# Altium footprint library Header_127.PcbLib: 60 footprints (part 5 of 6)
Each footprint in its own frame and in the unit in brackets; x right, y up, seen from the top. Pads: shape width x height; smd on the part's side, far side on the other; paste and mask are expansions set on the pad; w line width, h text height; cw(c..) or ccw(c..) is an arc to the next point about the centre after c.
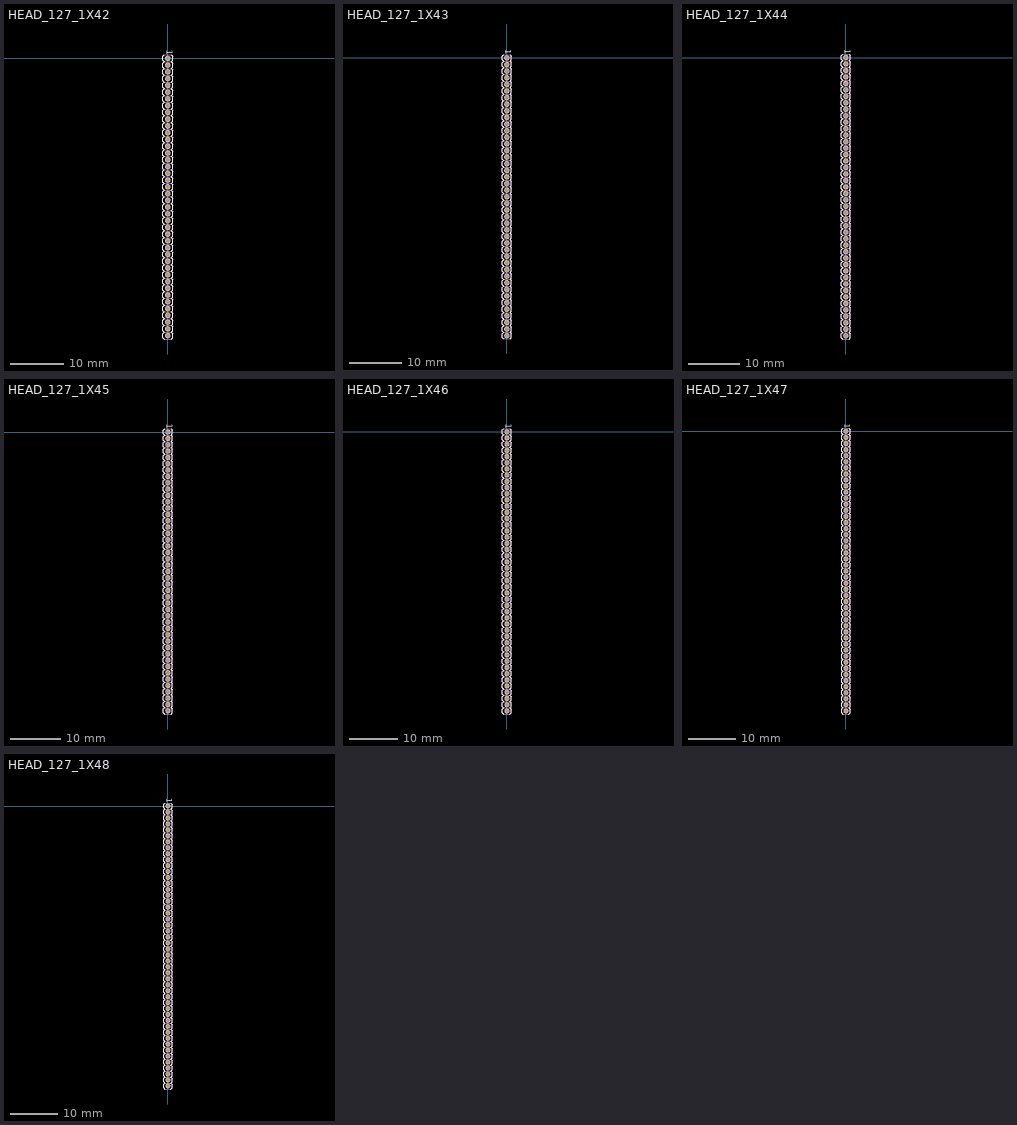
[diagram p4: the footprints below, top view; thin cyan lines are the x and y axes]

## HEAD_127_1X42 [mm] "Header 1.27mm 1x42"
pads (42):
  round 1.05 hole 0.65: 1(0,0) 2(0,-1.27) 3(0,-2.54) 4(0,-3.81) 5(0,-5.08) 6(0,-6.35) 7(0,-7.62) 8(0,-8.89) 9(0,-10.16) 10(0,-11.43) 11(0,-12.7) 12(0,-13.97) 13(0,-15.24) 14(0,-16.51) 15(0,-17.78) 16(0,-19.05) 17(0,-20.32) 18(0,-21.59) 19(0,-22.86) 20(0,-24.13) 21(0,-25.4) 22(0,-26.67) 23(0,-27.94) 24(0,-29.21) 25(0,-30.48) 26(0,-31.75) 27(0,-33.02) 28(0,-34.29) 29(0,-35.56) 30(0,-36.83) 31(0,-38.1) 32(0,-39.37) 33(0,-40.64) 34(0,-41.91) 35(0,-43.18) 36(0,-44.45) 37(0,-45.72) 38(0,-46.99) 39(0,-48.26) 40(0,-49.53) 41(0,-50.8) 42(0,-52.07)
Top Overlay:
  drawing of 252 lines, arcs and shapes, not listed
  text "1" at -0.642,1.636 h2
Bottom Overlay:
  text "1" at -0.642,0.864 h2
Top Assembly:
  drawing of 302 lines, arcs and shapes, not listed
3D body: height 2, standoff 0, extent -0.9,-52.705 0.9,-51.435
3D body: height 10, standoff -3, extent -0.2,-52.27 0.2,-51.87
3D body: height 2, standoff 0, extent -0.9,-51.435 0.9,-50.165
3D body: height 10, standoff -3, extent -0.2,-51 0.2,-50.6
3D body: height 2, standoff 0, extent -0.9,-50.165 0.9,-48.895
3D body: height 10, standoff -3, extent -0.2,-49.73 0.2,-49.33
3D body: height 2, standoff 0, extent -0.9,-48.895 0.9,-47.625
3D body: height 10, standoff -3, extent -0.2,-48.46 0.2,-48.06
3D body: height 2, standoff 0, extent -0.9,-47.625 0.9,-46.355
3D body: height 10, standoff -3, extent -0.2,-47.19 0.2,-46.79
3D body: height 2, standoff 0, extent -0.9,-46.355 0.9,-45.085
3D body: height 10, standoff -3, extent -0.2,-45.92 0.2,-45.52
3D body: height 2, standoff 0, extent -0.9,-45.085 0.9,-43.815
3D body: height 10, standoff -3, extent -0.2,-44.65 0.2,-44.25
3D body: height 2, standoff 0, extent -0.9,-43.815 0.9,-42.545
3D body: height 10, standoff -3, extent -0.2,-43.38 0.2,-42.98
3D body: height 2, standoff 0, extent -0.9,-42.545 0.9,-41.275
3D body: height 10, standoff -3, extent -0.2,-42.11 0.2,-41.71
3D body: height 2, standoff 0, extent -0.9,-41.275 0.9,-40.005
3D body: height 10, standoff -3, extent -0.2,-40.84 0.2,-40.44
3D body: height 2, standoff 0, extent -0.9,-40.005 0.9,-38.735
3D body: height 10, standoff -3, extent -0.2,-39.57 0.2,-39.17
3D body: height 2, standoff 0, extent -0.9,-38.735 0.9,-37.465
3D body: height 10, standoff -3, extent -0.2,-38.3 0.2,-37.9
3D body: height 2, standoff 0, extent -0.9,-37.465 0.9,-36.195
3D body: height 10, standoff -3, extent -0.2,-37.03 0.2,-36.63
3D body: height 2, standoff 0, extent -0.9,-36.195 0.9,-34.925
3D body: height 10, standoff -3, extent -0.2,-35.76 0.2,-35.36
3D body: height 2, standoff 0, extent -0.9,-34.925 0.9,-33.655
3D body: height 10, standoff -3, extent -0.2,-34.49 0.2,-34.09
3D body: height 2, standoff 0, extent -0.9,-33.655 0.9,-32.385
3D body: height 10, standoff -3, extent -0.2,-33.22 0.2,-32.82
3D body: height 2, standoff 0, extent -0.9,-32.385 0.9,-31.115
3D body: height 10, standoff -3, extent -0.2,-31.95 0.2,-31.55
3D body: height 2, standoff 0, extent -0.9,-31.115 0.9,-29.845
3D body: height 10, standoff -3, extent -0.2,-30.68 0.2,-30.28
3D body: height 2, standoff 0, extent -0.9,-29.845 0.9,-28.575
3D body: height 10, standoff -3, extent -0.2,-29.41 0.2,-29.01
3D body: height 2, standoff 0, extent -0.9,-28.575 0.9,-27.305
3D body: height 10, standoff -3, extent -0.2,-28.14 0.2,-27.74
3D body: height 2, standoff 0, extent -0.9,-27.305 0.9,-26.035
3D body: height 10, standoff -3, extent -0.2,-26.87 0.2,-26.47
3D body: height 2, standoff 0, extent -0.9,-26.035 0.9,-24.765
3D body: height 10, standoff -3, extent -0.2,-25.6 0.2,-25.2
3D body: height 2, standoff 0, extent -0.9,-24.765 0.9,-23.495
3D body: height 10, standoff -3, extent -0.2,-24.33 0.2,-23.93
3D body: height 2, standoff 0, extent -0.9,-23.495 0.9,-22.225
3D body: height 10, standoff -3, extent -0.2,-23.06 0.2,-22.66
3D body: height 2, standoff 0, extent -0.9,-22.225 0.9,-20.955
3D body: height 10, standoff -3, extent -0.2,-21.79 0.2,-21.39
3D body: height 2, standoff 0, extent -0.9,-20.955 0.9,-19.685
3D body: height 10, standoff -3, extent -0.2,-20.52 0.2,-20.12
3D body: height 2, standoff 0, extent -0.9,-19.685 0.9,-18.415
3D body: height 10, standoff -3, extent -0.2,-19.25 0.2,-18.85
3D body: height 10, standoff -3, extent -0.2,-0.2 0.2,0.2
3D body: height 2, standoff 0, extent -0.9,-0.635 0.9,0.635
3D body: height 10, standoff -3, extent -0.2,-1.47 0.2,-1.07
3D body: height 2, standoff 0, extent -0.9,-1.905 0.9,-0.635
3D body: height 10, standoff -3, extent -0.2,-2.74 0.2,-2.34
3D body: height 2, standoff 0, extent -0.9,-3.175 0.9,-1.905
3D body: height 10, standoff -3, extent -0.2,-4.01 0.2,-3.61
3D body: height 2, standoff 0, extent -0.9,-4.445 0.9,-3.175
3D body: height 10, standoff -3, extent -0.2,-5.28 0.2,-4.88
3D body: height 2, standoff 0, extent -0.9,-5.715 0.9,-4.445
3D body: height 10, standoff -3, extent -0.2,-6.55 0.2,-6.15
3D body: height 2, standoff 0, extent -0.9,-6.985 0.9,-5.715
3D body: height 10, standoff -3, extent -0.2,-7.82 0.2,-7.42
3D body: height 2, standoff 0, extent -0.9,-8.255 0.9,-6.985
3D body: height 2, standoff 0, extent -0.9,-9.525 0.9,-8.255
3D body: height 10, standoff -3, extent -0.2,-9.09 0.2,-8.69
3D body: height 2, standoff 0, extent -0.9,-10.795 0.9,-9.525
3D body: height 10, standoff -3, extent -0.2,-10.36 0.2,-9.96
3D body: height 2, standoff 0, extent -0.9,-12.065 0.9,-10.795
3D body: height 10, standoff -3, extent -0.2,-11.63 0.2,-11.23
3D body: height 2, standoff 0, extent -0.9,-13.335 0.9,-12.065
3D body: height 10, standoff -3, extent -0.2,-12.9 0.2,-12.5
3D body: height 2, standoff 0, extent -0.9,-14.605 0.9,-13.335
3D body: height 10, standoff -3, extent -0.2,-14.17 0.2,-13.77
3D body: height 2, standoff 0, extent -0.9,-15.875 0.9,-14.605
3D body: height 10, standoff -3, extent -0.2,-15.44 0.2,-15.04
3D body: height 2, standoff 0, extent -0.9,-17.145 0.9,-15.875
3D body: height 10, standoff -3, extent -0.2,-16.71 0.2,-16.31
3D body: height 2, standoff 0, extent -0.9,-18.415 0.9,-17.145
3D body: height 10, standoff -3, extent -0.2,-17.98 0.2,-17.58

## HEAD_127_1X43 [mm] "Header 1.27mm 1x43"
pads (43):
  round 1.05 hole 0.65: 1(0,0) 2(0,-1.27) 3(0,-2.54) 4(0,-3.81) 5(0,-5.08) 6(0,-6.35) 7(0,-7.62) 8(0,-8.89) 9(0,-10.16) 10(0,-11.43) 11(0,-12.7) 12(0,-13.97) 13(0,-15.24) 14(0,-16.51) 15(0,-17.78) 16(0,-19.05) 17(0,-20.32) 18(0,-21.59) 19(0,-22.86) 20(0,-24.13) 21(0,-25.4) 22(0,-26.67) 23(0,-27.94) 24(0,-29.21) 25(0,-30.48) 26(0,-31.75) 27(0,-33.02) 28(0,-34.29) 29(0,-35.56) 30(0,-36.83) 31(0,-38.1) 32(0,-39.37) 33(0,-40.64) 34(0,-41.91) 35(0,-43.18) 36(0,-44.45) 37(0,-45.72) 38(0,-46.99) 39(0,-48.26) 40(0,-49.53) 41(0,-50.8) 42(0,-52.07) 43(0,-53.34)
Top Overlay:
  drawing of 258 lines, arcs and shapes, not listed
  text "1" at -0.642,1.636 h2
Bottom Overlay:
  text "1" at -0.642,0.864 h2
Top Assembly:
  drawing of 309 lines, arcs and shapes, not listed
3D body: height 2, standoff 0, extent -0.9,-53.975 0.9,-52.705
3D body: height 10, standoff -3, extent -0.2,-53.54 0.2,-53.14
3D body: height 2, standoff 0, extent -0.9,-52.705 0.9,-51.435
3D body: height 10, standoff -3, extent -0.2,-52.27 0.2,-51.87
3D body: height 2, standoff 0, extent -0.9,-51.435 0.9,-50.165
3D body: height 10, standoff -3, extent -0.2,-51 0.2,-50.6
3D body: height 2, standoff 0, extent -0.9,-50.165 0.9,-48.895
3D body: height 10, standoff -3, extent -0.2,-49.73 0.2,-49.33
3D body: height 2, standoff 0, extent -0.9,-48.895 0.9,-47.625
3D body: height 10, standoff -3, extent -0.2,-48.46 0.2,-48.06
3D body: height 2, standoff 0, extent -0.9,-47.625 0.9,-46.355
3D body: height 10, standoff -3, extent -0.2,-47.19 0.2,-46.79
3D body: height 2, standoff 0, extent -0.9,-46.355 0.9,-45.085
3D body: height 10, standoff -3, extent -0.2,-45.92 0.2,-45.52
3D body: height 2, standoff 0, extent -0.9,-45.085 0.9,-43.815
3D body: height 10, standoff -3, extent -0.2,-44.65 0.2,-44.25
3D body: height 2, standoff 0, extent -0.9,-43.815 0.9,-42.545
3D body: height 10, standoff -3, extent -0.2,-43.38 0.2,-42.98
3D body: height 2, standoff 0, extent -0.9,-42.545 0.9,-41.275
3D body: height 10, standoff -3, extent -0.2,-42.11 0.2,-41.71
3D body: height 2, standoff 0, extent -0.9,-41.275 0.9,-40.005
3D body: height 10, standoff -3, extent -0.2,-40.84 0.2,-40.44
3D body: height 2, standoff 0, extent -0.9,-40.005 0.9,-38.735
3D body: height 10, standoff -3, extent -0.2,-39.57 0.2,-39.17
3D body: height 2, standoff 0, extent -0.9,-38.735 0.9,-37.465
3D body: height 10, standoff -3, extent -0.2,-38.3 0.2,-37.9
3D body: height 2, standoff 0, extent -0.9,-37.465 0.9,-36.195
3D body: height 10, standoff -3, extent -0.2,-37.03 0.2,-36.63
3D body: height 2, standoff 0, extent -0.9,-36.195 0.9,-34.925
3D body: height 10, standoff -3, extent -0.2,-35.76 0.2,-35.36
3D body: height 2, standoff 0, extent -0.9,-34.925 0.9,-33.655
3D body: height 10, standoff -3, extent -0.2,-34.49 0.2,-34.09
3D body: height 2, standoff 0, extent -0.9,-33.655 0.9,-32.385
3D body: height 10, standoff -3, extent -0.2,-33.22 0.2,-32.82
3D body: height 2, standoff 0, extent -0.9,-32.385 0.9,-31.115
3D body: height 10, standoff -3, extent -0.2,-31.95 0.2,-31.55
3D body: height 2, standoff 0, extent -0.9,-31.115 0.9,-29.845
3D body: height 10, standoff -3, extent -0.2,-30.68 0.2,-30.28
3D body: height 2, standoff 0, extent -0.9,-29.845 0.9,-28.575
3D body: height 10, standoff -3, extent -0.2,-29.41 0.2,-29.01
3D body: height 2, standoff 0, extent -0.9,-28.575 0.9,-27.305
3D body: height 10, standoff -3, extent -0.2,-28.14 0.2,-27.74
3D body: height 2, standoff 0, extent -0.9,-27.305 0.9,-26.035
3D body: height 10, standoff -3, extent -0.2,-26.87 0.2,-26.47
3D body: height 2, standoff 0, extent -0.9,-26.035 0.9,-24.765
3D body: height 10, standoff -3, extent -0.2,-25.6 0.2,-25.2
3D body: height 2, standoff 0, extent -0.9,-24.765 0.9,-23.495
3D body: height 10, standoff -3, extent -0.2,-24.33 0.2,-23.93
3D body: height 2, standoff 0, extent -0.9,-23.495 0.9,-22.225
3D body: height 10, standoff -3, extent -0.2,-23.06 0.2,-22.66
3D body: height 2, standoff 0, extent -0.9,-22.225 0.9,-20.955
3D body: height 10, standoff -3, extent -0.2,-21.79 0.2,-21.39
3D body: height 2, standoff 0, extent -0.9,-20.955 0.9,-19.685
3D body: height 10, standoff -3, extent -0.2,-20.52 0.2,-20.12
3D body: height 2, standoff 0, extent -0.9,-19.685 0.9,-18.415
3D body: height 10, standoff -3, extent -0.2,-19.25 0.2,-18.85
3D body: height 10, standoff -3, extent -0.2,-0.2 0.2,0.2
3D body: height 2, standoff 0, extent -0.9,-0.635 0.9,0.635
3D body: height 10, standoff -3, extent -0.2,-1.47 0.2,-1.07
3D body: height 2, standoff 0, extent -0.9,-1.905 0.9,-0.635
3D body: height 10, standoff -3, extent -0.2,-2.74 0.2,-2.34
3D body: height 2, standoff 0, extent -0.9,-3.175 0.9,-1.905
3D body: height 10, standoff -3, extent -0.2,-4.01 0.2,-3.61
3D body: height 2, standoff 0, extent -0.9,-4.445 0.9,-3.175
3D body: height 10, standoff -3, extent -0.2,-5.28 0.2,-4.88
3D body: height 2, standoff 0, extent -0.9,-5.715 0.9,-4.445
3D body: height 10, standoff -3, extent -0.2,-6.55 0.2,-6.15
3D body: height 2, standoff 0, extent -0.9,-6.985 0.9,-5.715
3D body: height 10, standoff -3, extent -0.2,-7.82 0.2,-7.42
3D body: height 2, standoff 0, extent -0.9,-8.255 0.9,-6.985
3D body: height 2, standoff 0, extent -0.9,-9.525 0.9,-8.255
3D body: height 10, standoff -3, extent -0.2,-9.09 0.2,-8.69
3D body: height 2, standoff 0, extent -0.9,-10.795 0.9,-9.525
3D body: height 10, standoff -3, extent -0.2,-10.36 0.2,-9.96
3D body: height 2, standoff 0, extent -0.9,-12.065 0.9,-10.795
3D body: height 10, standoff -3, extent -0.2,-11.63 0.2,-11.23
3D body: height 2, standoff 0, extent -0.9,-13.335 0.9,-12.065
3D body: height 10, standoff -3, extent -0.2,-12.9 0.2,-12.5
3D body: height 2, standoff 0, extent -0.9,-14.605 0.9,-13.335
3D body: height 10, standoff -3, extent -0.2,-14.17 0.2,-13.77
3D body: height 2, standoff 0, extent -0.9,-15.875 0.9,-14.605
3D body: height 10, standoff -3, extent -0.2,-15.44 0.2,-15.04
3D body: height 2, standoff 0, extent -0.9,-17.145 0.9,-15.875
3D body: height 10, standoff -3, extent -0.2,-16.71 0.2,-16.31
3D body: height 2, standoff 0, extent -0.9,-18.415 0.9,-17.145
3D body: height 10, standoff -3, extent -0.2,-17.98 0.2,-17.58

## HEAD_127_1X44 [mm] "Header 1.27mm 1x44"
pads (44):
  round 1.05 hole 0.65: 1(0,0) 2(0,-1.27) 3(0,-2.54) 4(0,-3.81) 5(0,-5.08) 6(0,-6.35) 7(0,-7.62) 8(0,-8.89) 9(0,-10.16) 10(0,-11.43) 11(0,-12.7) 12(0,-13.97) 13(0,-15.24) 14(0,-16.51) 15(0,-17.78) 16(0,-19.05) 17(0,-20.32) 18(0,-21.59) 19(0,-22.86) 20(0,-24.13) 21(0,-25.4) 22(0,-26.67) 23(0,-27.94) 24(0,-29.21) 25(0,-30.48) 26(0,-31.75) 27(0,-33.02) 28(0,-34.29) 29(0,-35.56) 30(0,-36.83) 31(0,-38.1) 32(0,-39.37) 33(0,-40.64) 34(0,-41.91) 35(0,-43.18) 36(0,-44.45) 37(0,-45.72) 38(0,-46.99) 39(0,-48.26) 40(0,-49.53) 41(0,-50.8) 42(0,-52.07) 43(0,-53.34) 44(0,-54.61)
Top Overlay:
  drawing of 264 lines, arcs and shapes, not listed
  text "1" at -0.642,1.636 h2
Bottom Overlay:
  text "1" at -0.642,0.864 h2
Top Assembly:
  drawing of 316 lines, arcs and shapes, not listed
3D body: height 2, standoff 0, extent -0.9,-55.245 0.9,-53.975
3D body: height 10, standoff -3, extent -0.2,-54.81 0.2,-54.41
3D body: height 2, standoff 0, extent -0.9,-53.975 0.9,-52.705
3D body: height 10, standoff -3, extent -0.2,-53.54 0.2,-53.14
3D body: height 2, standoff 0, extent -0.9,-52.705 0.9,-51.435
3D body: height 10, standoff -3, extent -0.2,-52.27 0.2,-51.87
3D body: height 2, standoff 0, extent -0.9,-51.435 0.9,-50.165
3D body: height 10, standoff -3, extent -0.2,-51 0.2,-50.6
3D body: height 2, standoff 0, extent -0.9,-50.165 0.9,-48.895
3D body: height 10, standoff -3, extent -0.2,-49.73 0.2,-49.33
3D body: height 2, standoff 0, extent -0.9,-48.895 0.9,-47.625
3D body: height 10, standoff -3, extent -0.2,-48.46 0.2,-48.06
3D body: height 2, standoff 0, extent -0.9,-47.625 0.9,-46.355
3D body: height 10, standoff -3, extent -0.2,-47.19 0.2,-46.79
3D body: height 2, standoff 0, extent -0.9,-46.355 0.9,-45.085
3D body: height 10, standoff -3, extent -0.2,-45.92 0.2,-45.52
3D body: height 2, standoff 0, extent -0.9,-45.085 0.9,-43.815
3D body: height 10, standoff -3, extent -0.2,-44.65 0.2,-44.25
3D body: height 2, standoff 0, extent -0.9,-43.815 0.9,-42.545
3D body: height 10, standoff -3, extent -0.2,-43.38 0.2,-42.98
3D body: height 2, standoff 0, extent -0.9,-42.545 0.9,-41.275
3D body: height 10, standoff -3, extent -0.2,-42.11 0.2,-41.71
3D body: height 2, standoff 0, extent -0.9,-41.275 0.9,-40.005
3D body: height 10, standoff -3, extent -0.2,-40.84 0.2,-40.44
3D body: height 2, standoff 0, extent -0.9,-40.005 0.9,-38.735
3D body: height 10, standoff -3, extent -0.2,-39.57 0.2,-39.17
3D body: height 2, standoff 0, extent -0.9,-38.735 0.9,-37.465
3D body: height 10, standoff -3, extent -0.2,-38.3 0.2,-37.9
3D body: height 2, standoff 0, extent -0.9,-37.465 0.9,-36.195
3D body: height 10, standoff -3, extent -0.2,-37.03 0.2,-36.63
3D body: height 2, standoff 0, extent -0.9,-36.195 0.9,-34.925
3D body: height 10, standoff -3, extent -0.2,-35.76 0.2,-35.36
3D body: height 2, standoff 0, extent -0.9,-34.925 0.9,-33.655
3D body: height 10, standoff -3, extent -0.2,-34.49 0.2,-34.09
3D body: height 2, standoff 0, extent -0.9,-33.655 0.9,-32.385
3D body: height 10, standoff -3, extent -0.2,-33.22 0.2,-32.82
3D body: height 2, standoff 0, extent -0.9,-32.385 0.9,-31.115
3D body: height 10, standoff -3, extent -0.2,-31.95 0.2,-31.55
3D body: height 2, standoff 0, extent -0.9,-31.115 0.9,-29.845
3D body: height 10, standoff -3, extent -0.2,-30.68 0.2,-30.28
3D body: height 2, standoff 0, extent -0.9,-29.845 0.9,-28.575
3D body: height 10, standoff -3, extent -0.2,-29.41 0.2,-29.01
3D body: height 2, standoff 0, extent -0.9,-28.575 0.9,-27.305
3D body: height 10, standoff -3, extent -0.2,-28.14 0.2,-27.74
3D body: height 2, standoff 0, extent -0.9,-27.305 0.9,-26.035
3D body: height 10, standoff -3, extent -0.2,-26.87 0.2,-26.47
3D body: height 2, standoff 0, extent -0.9,-26.035 0.9,-24.765
3D body: height 10, standoff -3, extent -0.2,-25.6 0.2,-25.2
3D body: height 2, standoff 0, extent -0.9,-24.765 0.9,-23.495
3D body: height 10, standoff -3, extent -0.2,-24.33 0.2,-23.93
3D body: height 2, standoff 0, extent -0.9,-23.495 0.9,-22.225
3D body: height 10, standoff -3, extent -0.2,-23.06 0.2,-22.66
3D body: height 2, standoff 0, extent -0.9,-22.225 0.9,-20.955
3D body: height 10, standoff -3, extent -0.2,-21.79 0.2,-21.39
3D body: height 2, standoff 0, extent -0.9,-20.955 0.9,-19.685
3D body: height 10, standoff -3, extent -0.2,-20.52 0.2,-20.12
3D body: height 2, standoff 0, extent -0.9,-19.685 0.9,-18.415
3D body: height 10, standoff -3, extent -0.2,-19.25 0.2,-18.85
3D body: height 10, standoff -3, extent -0.2,-0.2 0.2,0.2
3D body: height 2, standoff 0, extent -0.9,-0.635 0.9,0.635
3D body: height 10, standoff -3, extent -0.2,-1.47 0.2,-1.07
3D body: height 2, standoff 0, extent -0.9,-1.905 0.9,-0.635
3D body: height 10, standoff -3, extent -0.2,-2.74 0.2,-2.34
3D body: height 2, standoff 0, extent -0.9,-3.175 0.9,-1.905
3D body: height 10, standoff -3, extent -0.2,-4.01 0.2,-3.61
3D body: height 2, standoff 0, extent -0.9,-4.445 0.9,-3.175
3D body: height 10, standoff -3, extent -0.2,-5.28 0.2,-4.88
3D body: height 2, standoff 0, extent -0.9,-5.715 0.9,-4.445
3D body: height 10, standoff -3, extent -0.2,-6.55 0.2,-6.15
3D body: height 2, standoff 0, extent -0.9,-6.985 0.9,-5.715
3D body: height 10, standoff -3, extent -0.2,-7.82 0.2,-7.42
3D body: height 2, standoff 0, extent -0.9,-8.255 0.9,-6.985
3D body: height 2, standoff 0, extent -0.9,-9.525 0.9,-8.255
3D body: height 10, standoff -3, extent -0.2,-9.09 0.2,-8.69
3D body: height 2, standoff 0, extent -0.9,-10.795 0.9,-9.525
3D body: height 10, standoff -3, extent -0.2,-10.36 0.2,-9.96
3D body: height 2, standoff 0, extent -0.9,-12.065 0.9,-10.795
3D body: height 10, standoff -3, extent -0.2,-11.63 0.2,-11.23
3D body: height 2, standoff 0, extent -0.9,-13.335 0.9,-12.065
3D body: height 10, standoff -3, extent -0.2,-12.9 0.2,-12.5
3D body: height 2, standoff 0, extent -0.9,-14.605 0.9,-13.335
3D body: height 10, standoff -3, extent -0.2,-14.17 0.2,-13.77
3D body: height 2, standoff 0, extent -0.9,-15.875 0.9,-14.605
3D body: height 10, standoff -3, extent -0.2,-15.44 0.2,-15.04
3D body: height 2, standoff 0, extent -0.9,-17.145 0.9,-15.875
3D body: height 10, standoff -3, extent -0.2,-16.71 0.2,-16.31
3D body: height 2, standoff 0, extent -0.9,-18.415 0.9,-17.145
3D body: height 10, standoff -3, extent -0.2,-17.98 0.2,-17.58

## HEAD_127_1X45 [mm] "Header 1.27mm 1x45"
pads (45):
  round 1.05 hole 0.65: 1(0,0) 2(0,-1.27) 3(0,-2.54) 4(0,-3.81) 5(0,-5.08) 6(0,-6.35) 7(0,-7.62) 8(0,-8.89) 9(0,-10.16) 10(0,-11.43) 11(0,-12.7) 12(0,-13.97) 13(0,-15.24) 14(0,-16.51) 15(0,-17.78) 16(0,-19.05) 17(0,-20.32) 18(0,-21.59) 19(0,-22.86) 20(0,-24.13) 21(0,-25.4) 22(0,-26.67) 23(0,-27.94) 24(0,-29.21) 25(0,-30.48) 26(0,-31.75) 27(0,-33.02) 28(0,-34.29) 29(0,-35.56) 30(0,-36.83) 31(0,-38.1) 32(0,-39.37) 33(0,-40.64) 34(0,-41.91) 35(0,-43.18) 36(0,-44.45) 37(0,-45.72) 38(0,-46.99) 39(0,-48.26) 40(0,-49.53) 41(0,-50.8) 42(0,-52.07) 43(0,-53.34) 44(0,-54.61) 45(0,-55.88)
Top Overlay:
  drawing of 270 lines, arcs and shapes, not listed
  text "1" at -0.642,1.636 h2
Bottom Overlay:
  text "1" at -0.642,0.864 h2
Top Assembly:
  drawing of 323 lines, arcs and shapes, not listed
3D body: height 10, standoff -3, extent -0.2,-17.98 0.2,-17.58
3D body: height 2, standoff 0, extent -0.9,-18.415 0.9,-17.145
3D body: height 10, standoff -3, extent -0.2,-16.71 0.2,-16.31
3D body: height 2, standoff 0, extent -0.9,-17.145 0.9,-15.875
3D body: height 10, standoff -3, extent -0.2,-15.44 0.2,-15.04
3D body: height 2, standoff 0, extent -0.9,-15.875 0.9,-14.605
3D body: height 10, standoff -3, extent -0.2,-14.17 0.2,-13.77
3D body: height 2, standoff 0, extent -0.9,-14.605 0.9,-13.335
3D body: height 10, standoff -3, extent -0.2,-12.9 0.2,-12.5
3D body: height 2, standoff 0, extent -0.9,-13.335 0.9,-12.065
3D body: height 10, standoff -3, extent -0.2,-11.63 0.2,-11.23
3D body: height 2, standoff 0, extent -0.9,-12.065 0.9,-10.795
3D body: height 10, standoff -3, extent -0.2,-10.36 0.2,-9.96
3D body: height 2, standoff 0, extent -0.9,-10.795 0.9,-9.525
3D body: height 10, standoff -3, extent -0.2,-9.09 0.2,-8.69
3D body: height 2, standoff 0, extent -0.9,-9.525 0.9,-8.255
3D body: height 2, standoff 0, extent -0.9,-8.255 0.9,-6.985
3D body: height 10, standoff -3, extent -0.2,-7.82 0.2,-7.42
3D body: height 2, standoff 0, extent -0.9,-6.985 0.9,-5.715
3D body: height 10, standoff -3, extent -0.2,-6.55 0.2,-6.15
3D body: height 2, standoff 0, extent -0.9,-5.715 0.9,-4.445
3D body: height 10, standoff -3, extent -0.2,-5.28 0.2,-4.88
3D body: height 2, standoff 0, extent -0.9,-4.445 0.9,-3.175
3D body: height 10, standoff -3, extent -0.2,-4.01 0.2,-3.61
3D body: height 2, standoff 0, extent -0.9,-3.175 0.9,-1.905
3D body: height 10, standoff -3, extent -0.2,-2.74 0.2,-2.34
3D body: height 2, standoff 0, extent -0.9,-1.905 0.9,-0.635
3D body: height 10, standoff -3, extent -0.2,-1.47 0.2,-1.07
3D body: height 2, standoff 0, extent -0.9,-0.635 0.9,0.635
3D body: height 10, standoff -3, extent -0.2,-0.2 0.2,0.2
3D body: height 10, standoff -3, extent -0.2,-19.25 0.2,-18.85
3D body: height 2, standoff 0, extent -0.9,-19.685 0.9,-18.415
3D body: height 10, standoff -3, extent -0.2,-20.52 0.2,-20.12
3D body: height 2, standoff 0, extent -0.9,-20.955 0.9,-19.685
3D body: height 10, standoff -3, extent -0.2,-21.79 0.2,-21.39
3D body: height 2, standoff 0, extent -0.9,-22.225 0.9,-20.955
3D body: height 10, standoff -3, extent -0.2,-23.06 0.2,-22.66
3D body: height 2, standoff 0, extent -0.9,-23.495 0.9,-22.225
3D body: height 10, standoff -3, extent -0.2,-24.33 0.2,-23.93
3D body: height 2, standoff 0, extent -0.9,-24.765 0.9,-23.495
3D body: height 10, standoff -3, extent -0.2,-25.6 0.2,-25.2
3D body: height 2, standoff 0, extent -0.9,-26.035 0.9,-24.765
3D body: height 10, standoff -3, extent -0.2,-26.87 0.2,-26.47
3D body: height 2, standoff 0, extent -0.9,-27.305 0.9,-26.035
3D body: height 10, standoff -3, extent -0.2,-28.14 0.2,-27.74
3D body: height 2, standoff 0, extent -0.9,-28.575 0.9,-27.305
3D body: height 10, standoff -3, extent -0.2,-29.41 0.2,-29.01
3D body: height 2, standoff 0, extent -0.9,-29.845 0.9,-28.575
3D body: height 10, standoff -3, extent -0.2,-30.68 0.2,-30.28
3D body: height 2, standoff 0, extent -0.9,-31.115 0.9,-29.845
3D body: height 10, standoff -3, extent -0.2,-31.95 0.2,-31.55
3D body: height 2, standoff 0, extent -0.9,-32.385 0.9,-31.115
3D body: height 10, standoff -3, extent -0.2,-33.22 0.2,-32.82
3D body: height 2, standoff 0, extent -0.9,-33.655 0.9,-32.385
3D body: height 10, standoff -3, extent -0.2,-34.49 0.2,-34.09
3D body: height 2, standoff 0, extent -0.9,-34.925 0.9,-33.655
3D body: height 10, standoff -3, extent -0.2,-35.76 0.2,-35.36
3D body: height 2, standoff 0, extent -0.9,-36.195 0.9,-34.925
3D body: height 10, standoff -3, extent -0.2,-37.03 0.2,-36.63
3D body: height 2, standoff 0, extent -0.9,-37.465 0.9,-36.195
3D body: height 10, standoff -3, extent -0.2,-38.3 0.2,-37.9
3D body: height 2, standoff 0, extent -0.9,-38.735 0.9,-37.465
3D body: height 10, standoff -3, extent -0.2,-39.57 0.2,-39.17
3D body: height 2, standoff 0, extent -0.9,-40.005 0.9,-38.735
3D body: height 10, standoff -3, extent -0.2,-40.84 0.2,-40.44
3D body: height 2, standoff 0, extent -0.9,-41.275 0.9,-40.005
3D body: height 10, standoff -3, extent -0.2,-42.11 0.2,-41.71
3D body: height 2, standoff 0, extent -0.9,-42.545 0.9,-41.275
3D body: height 10, standoff -3, extent -0.2,-43.38 0.2,-42.98
3D body: height 2, standoff 0, extent -0.9,-43.815 0.9,-42.545
3D body: height 10, standoff -3, extent -0.2,-44.65 0.2,-44.25
3D body: height 2, standoff 0, extent -0.9,-45.085 0.9,-43.815
3D body: height 10, standoff -3, extent -0.2,-45.92 0.2,-45.52
3D body: height 2, standoff 0, extent -0.9,-46.355 0.9,-45.085
3D body: height 10, standoff -3, extent -0.2,-47.19 0.2,-46.79
3D body: height 2, standoff 0, extent -0.9,-47.625 0.9,-46.355
3D body: height 10, standoff -3, extent -0.2,-48.46 0.2,-48.06
3D body: height 2, standoff 0, extent -0.9,-48.895 0.9,-47.625
3D body: height 10, standoff -3, extent -0.2,-49.73 0.2,-49.33
3D body: height 2, standoff 0, extent -0.9,-50.165 0.9,-48.895
3D body: height 10, standoff -3, extent -0.2,-51 0.2,-50.6
3D body: height 2, standoff 0, extent -0.9,-51.435 0.9,-50.165
3D body: height 10, standoff -3, extent -0.2,-52.27 0.2,-51.87
3D body: height 2, standoff 0, extent -0.9,-52.705 0.9,-51.435
3D body: height 10, standoff -3, extent -0.2,-53.54 0.2,-53.14
3D body: height 2, standoff 0, extent -0.9,-53.975 0.9,-52.705
3D body: height 10, standoff -3, extent -0.2,-54.81 0.2,-54.41
3D body: height 2, standoff 0, extent -0.9,-55.245 0.9,-53.975
3D body: height 10, standoff -3, extent -0.2,-56.08 0.2,-55.68
3D body: height 2, standoff 0, extent -0.9,-56.515 0.9,-55.245

## HEAD_127_1X46 [mm] "Header 1.27mm 1x46"
pads (46):
  round 1.05 hole 0.65: 1(0,0) 2(0,-1.27) 3(0,-2.54) 4(0,-3.81) 5(0,-5.08) 6(0,-6.35) 7(0,-7.62) 8(0,-8.89) 9(0,-10.16) 10(0,-11.43) 11(0,-12.7) 12(0,-13.97) 13(0,-15.24) 14(0,-16.51) 15(0,-17.78) 16(0,-19.05) 17(0,-20.32) 18(0,-21.59) 19(0,-22.86) 20(0,-24.13) 21(0,-25.4) 22(0,-26.67) 23(0,-27.94) 24(0,-29.21) 25(0,-30.48) 26(0,-31.75) 27(0,-33.02) 28(0,-34.29) 29(0,-35.56) 30(0,-36.83) 31(0,-38.1) 32(0,-39.37) 33(0,-40.64) 34(0,-41.91) 35(0,-43.18) 36(0,-44.45) 37(0,-45.72) 38(0,-46.99) 39(0,-48.26) 40(0,-49.53) 41(0,-50.8) 42(0,-52.07) 43(0,-53.34) 44(0,-54.61) 45(0,-55.88) 46(0,-57.15)
Top Overlay:
  drawing of 276 lines, arcs and shapes, not listed
  text "1" at -0.642,1.636 h2
Bottom Overlay:
  text "1" at -0.642,0.864 h2
Top Assembly:
  drawing of 330 lines, arcs and shapes, not listed
3D body: height 10, standoff -3, extent -0.2,-57.35 0.2,-56.95
3D body: height 2, standoff 0, extent -0.9,-57.785 0.9,-56.515
3D body: height 10, standoff -3, extent -0.2,-17.98 0.2,-17.58
3D body: height 2, standoff 0, extent -0.9,-18.415 0.9,-17.145
3D body: height 10, standoff -3, extent -0.2,-16.71 0.2,-16.31
3D body: height 2, standoff 0, extent -0.9,-17.145 0.9,-15.875
3D body: height 10, standoff -3, extent -0.2,-15.44 0.2,-15.04
3D body: height 2, standoff 0, extent -0.9,-15.875 0.9,-14.605
3D body: height 10, standoff -3, extent -0.2,-14.17 0.2,-13.77
3D body: height 2, standoff 0, extent -0.9,-14.605 0.9,-13.335
3D body: height 10, standoff -3, extent -0.2,-12.9 0.2,-12.5
3D body: height 2, standoff 0, extent -0.9,-13.335 0.9,-12.065
3D body: height 10, standoff -3, extent -0.2,-11.63 0.2,-11.23
3D body: height 2, standoff 0, extent -0.9,-12.065 0.9,-10.795
3D body: height 10, standoff -3, extent -0.2,-10.36 0.2,-9.96
3D body: height 2, standoff 0, extent -0.9,-10.795 0.9,-9.525
3D body: height 10, standoff -3, extent -0.2,-9.09 0.2,-8.69
3D body: height 2, standoff 0, extent -0.9,-9.525 0.9,-8.255
3D body: height 2, standoff 0, extent -0.9,-8.255 0.9,-6.985
3D body: height 10, standoff -3, extent -0.2,-7.82 0.2,-7.42
3D body: height 2, standoff 0, extent -0.9,-6.985 0.9,-5.715
3D body: height 10, standoff -3, extent -0.2,-6.55 0.2,-6.15
3D body: height 2, standoff 0, extent -0.9,-5.715 0.9,-4.445
3D body: height 10, standoff -3, extent -0.2,-5.28 0.2,-4.88
3D body: height 2, standoff 0, extent -0.9,-4.445 0.9,-3.175
3D body: height 10, standoff -3, extent -0.2,-4.01 0.2,-3.61
3D body: height 2, standoff 0, extent -0.9,-3.175 0.9,-1.905
3D body: height 10, standoff -3, extent -0.2,-2.74 0.2,-2.34
3D body: height 2, standoff 0, extent -0.9,-1.905 0.9,-0.635
3D body: height 10, standoff -3, extent -0.2,-1.47 0.2,-1.07
3D body: height 2, standoff 0, extent -0.9,-0.635 0.9,0.635
3D body: height 10, standoff -3, extent -0.2,-0.2 0.2,0.2
3D body: height 10, standoff -3, extent -0.2,-19.25 0.2,-18.85
3D body: height 2, standoff 0, extent -0.9,-19.685 0.9,-18.415
3D body: height 10, standoff -3, extent -0.2,-20.52 0.2,-20.12
3D body: height 2, standoff 0, extent -0.9,-20.955 0.9,-19.685
3D body: height 10, standoff -3, extent -0.2,-21.79 0.2,-21.39
3D body: height 2, standoff 0, extent -0.9,-22.225 0.9,-20.955
3D body: height 10, standoff -3, extent -0.2,-23.06 0.2,-22.66
3D body: height 2, standoff 0, extent -0.9,-23.495 0.9,-22.225
3D body: height 10, standoff -3, extent -0.2,-24.33 0.2,-23.93
3D body: height 2, standoff 0, extent -0.9,-24.765 0.9,-23.495
3D body: height 10, standoff -3, extent -0.2,-25.6 0.2,-25.2
3D body: height 2, standoff 0, extent -0.9,-26.035 0.9,-24.765
3D body: height 10, standoff -3, extent -0.2,-26.87 0.2,-26.47
3D body: height 2, standoff 0, extent -0.9,-27.305 0.9,-26.035
3D body: height 10, standoff -3, extent -0.2,-28.14 0.2,-27.74
3D body: height 2, standoff 0, extent -0.9,-28.575 0.9,-27.305
3D body: height 10, standoff -3, extent -0.2,-29.41 0.2,-29.01
3D body: height 2, standoff 0, extent -0.9,-29.845 0.9,-28.575
3D body: height 10, standoff -3, extent -0.2,-30.68 0.2,-30.28
3D body: height 2, standoff 0, extent -0.9,-31.115 0.9,-29.845
3D body: height 10, standoff -3, extent -0.2,-31.95 0.2,-31.55
3D body: height 2, standoff 0, extent -0.9,-32.385 0.9,-31.115
3D body: height 10, standoff -3, extent -0.2,-33.22 0.2,-32.82
3D body: height 2, standoff 0, extent -0.9,-33.655 0.9,-32.385
3D body: height 10, standoff -3, extent -0.2,-34.49 0.2,-34.09
3D body: height 2, standoff 0, extent -0.9,-34.925 0.9,-33.655
3D body: height 10, standoff -3, extent -0.2,-35.76 0.2,-35.36
3D body: height 2, standoff 0, extent -0.9,-36.195 0.9,-34.925
3D body: height 10, standoff -3, extent -0.2,-37.03 0.2,-36.63
3D body: height 2, standoff 0, extent -0.9,-37.465 0.9,-36.195
3D body: height 10, standoff -3, extent -0.2,-38.3 0.2,-37.9
3D body: height 2, standoff 0, extent -0.9,-38.735 0.9,-37.465
3D body: height 10, standoff -3, extent -0.2,-39.57 0.2,-39.17
3D body: height 2, standoff 0, extent -0.9,-40.005 0.9,-38.735
3D body: height 10, standoff -3, extent -0.2,-40.84 0.2,-40.44
3D body: height 2, standoff 0, extent -0.9,-41.275 0.9,-40.005
3D body: height 10, standoff -3, extent -0.2,-42.11 0.2,-41.71
3D body: height 2, standoff 0, extent -0.9,-42.545 0.9,-41.275
3D body: height 10, standoff -3, extent -0.2,-43.38 0.2,-42.98
3D body: height 2, standoff 0, extent -0.9,-43.815 0.9,-42.545
3D body: height 10, standoff -3, extent -0.2,-44.65 0.2,-44.25
3D body: height 2, standoff 0, extent -0.9,-45.085 0.9,-43.815
3D body: height 10, standoff -3, extent -0.2,-45.92 0.2,-45.52
3D body: height 2, standoff 0, extent -0.9,-46.355 0.9,-45.085
3D body: height 10, standoff -3, extent -0.2,-47.19 0.2,-46.79
3D body: height 2, standoff 0, extent -0.9,-47.625 0.9,-46.355
3D body: height 10, standoff -3, extent -0.2,-48.46 0.2,-48.06
3D body: height 2, standoff 0, extent -0.9,-48.895 0.9,-47.625
3D body: height 10, standoff -3, extent -0.2,-49.73 0.2,-49.33
3D body: height 2, standoff 0, extent -0.9,-50.165 0.9,-48.895
3D body: height 10, standoff -3, extent -0.2,-51 0.2,-50.6
3D body: height 2, standoff 0, extent -0.9,-51.435 0.9,-50.165
3D body: height 10, standoff -3, extent -0.2,-52.27 0.2,-51.87
3D body: height 2, standoff 0, extent -0.9,-52.705 0.9,-51.435
3D body: height 10, standoff -3, extent -0.2,-53.54 0.2,-53.14
3D body: height 2, standoff 0, extent -0.9,-53.975 0.9,-52.705
3D body: height 10, standoff -3, extent -0.2,-54.81 0.2,-54.41
3D body: height 2, standoff 0, extent -0.9,-55.245 0.9,-53.975
3D body: height 10, standoff -3, extent -0.2,-56.08 0.2,-55.68
3D body: height 2, standoff 0, extent -0.9,-56.515 0.9,-55.245

## HEAD_127_1X47 [mm] "Header 1.27mm 1x47"
pads (47):
  round 1.05 hole 0.65: 1(0,0) 2(0,-1.27) 3(0,-2.54) 4(0,-3.81) 5(0,-5.08) 6(0,-6.35) 7(0,-7.62) 8(0,-8.89) 9(0,-10.16) 10(0,-11.43) 11(0,-12.7) 12(0,-13.97) 13(0,-15.24) 14(0,-16.51) 15(0,-17.78) 16(0,-19.05) 17(0,-20.32) 18(0,-21.59) 19(0,-22.86) 20(0,-24.13) 21(0,-25.4) 22(0,-26.67) 23(0,-27.94) 24(0,-29.21) 25(0,-30.48) 26(0,-31.75) 27(0,-33.02) 28(0,-34.29) 29(0,-35.56) 30(0,-36.83) 31(0,-38.1) 32(0,-39.37) 33(0,-40.64) 34(0,-41.91) 35(0,-43.18) 36(0,-44.45) 37(0,-45.72) 38(0,-46.99) 39(0,-48.26) 40(0,-49.53) 41(0,-50.8) 42(0,-52.07) 43(0,-53.34) 44(0,-54.61) 45(0,-55.88) 46(0,-57.15) 47(0,-58.42)
Top Overlay:
  drawing of 282 lines, arcs and shapes, not listed
  text "1" at -0.642,1.636 h2
Bottom Overlay:
  text "1" at -0.642,0.864 h2
Top Assembly:
  drawing of 337 lines, arcs and shapes, not listed
3D body: height 10, standoff -3, extent -0.2,-57.35 0.2,-56.95
3D body: height 2, standoff 0, extent -0.9,-57.785 0.9,-56.515
3D body: height 10, standoff -3, extent -0.2,-17.98 0.2,-17.58
3D body: height 2, standoff 0, extent -0.9,-18.415 0.9,-17.145
3D body: height 10, standoff -3, extent -0.2,-16.71 0.2,-16.31
3D body: height 2, standoff 0, extent -0.9,-17.145 0.9,-15.875
3D body: height 10, standoff -3, extent -0.2,-15.44 0.2,-15.04
3D body: height 2, standoff 0, extent -0.9,-15.875 0.9,-14.605
3D body: height 10, standoff -3, extent -0.2,-14.17 0.2,-13.77
3D body: height 2, standoff 0, extent -0.9,-14.605 0.9,-13.335
3D body: height 10, standoff -3, extent -0.2,-12.9 0.2,-12.5
3D body: height 2, standoff 0, extent -0.9,-13.335 0.9,-12.065
3D body: height 10, standoff -3, extent -0.2,-11.63 0.2,-11.23
3D body: height 2, standoff 0, extent -0.9,-12.065 0.9,-10.795
3D body: height 10, standoff -3, extent -0.2,-10.36 0.2,-9.96
3D body: height 2, standoff 0, extent -0.9,-10.795 0.9,-9.525
3D body: height 10, standoff -3, extent -0.2,-9.09 0.2,-8.69
3D body: height 2, standoff 0, extent -0.9,-9.525 0.9,-8.255
3D body: height 2, standoff 0, extent -0.9,-8.255 0.9,-6.985
3D body: height 10, standoff -3, extent -0.2,-7.82 0.2,-7.42
3D body: height 2, standoff 0, extent -0.9,-6.985 0.9,-5.715
3D body: height 10, standoff -3, extent -0.2,-6.55 0.2,-6.15
3D body: height 2, standoff 0, extent -0.9,-5.715 0.9,-4.445
3D body: height 10, standoff -3, extent -0.2,-5.28 0.2,-4.88
3D body: height 2, standoff 0, extent -0.9,-4.445 0.9,-3.175
3D body: height 10, standoff -3, extent -0.2,-4.01 0.2,-3.61
3D body: height 2, standoff 0, extent -0.9,-3.175 0.9,-1.905
3D body: height 10, standoff -3, extent -0.2,-2.74 0.2,-2.34
3D body: height 2, standoff 0, extent -0.9,-1.905 0.9,-0.635
3D body: height 10, standoff -3, extent -0.2,-1.47 0.2,-1.07
3D body: height 2, standoff 0, extent -0.9,-0.635 0.9,0.635
3D body: height 10, standoff -3, extent -0.2,-0.2 0.2,0.2
3D body: height 10, standoff -3, extent -0.2,-19.25 0.2,-18.85
3D body: height 2, standoff 0, extent -0.9,-19.685 0.9,-18.415
3D body: height 10, standoff -3, extent -0.2,-20.52 0.2,-20.12
3D body: height 2, standoff 0, extent -0.9,-20.955 0.9,-19.685
3D body: height 10, standoff -3, extent -0.2,-21.79 0.2,-21.39
3D body: height 2, standoff 0, extent -0.9,-22.225 0.9,-20.955
3D body: height 10, standoff -3, extent -0.2,-23.06 0.2,-22.66
3D body: height 2, standoff 0, extent -0.9,-23.495 0.9,-22.225
3D body: height 10, standoff -3, extent -0.2,-24.33 0.2,-23.93
3D body: height 2, standoff 0, extent -0.9,-24.765 0.9,-23.495
3D body: height 10, standoff -3, extent -0.2,-25.6 0.2,-25.2
3D body: height 2, standoff 0, extent -0.9,-26.035 0.9,-24.765
3D body: height 10, standoff -3, extent -0.2,-26.87 0.2,-26.47
3D body: height 2, standoff 0, extent -0.9,-27.305 0.9,-26.035
3D body: height 10, standoff -3, extent -0.2,-28.14 0.2,-27.74
3D body: height 2, standoff 0, extent -0.9,-28.575 0.9,-27.305
3D body: height 10, standoff -3, extent -0.2,-29.41 0.2,-29.01
3D body: height 2, standoff 0, extent -0.9,-29.845 0.9,-28.575
3D body: height 10, standoff -3, extent -0.2,-30.68 0.2,-30.28
3D body: height 2, standoff 0, extent -0.9,-31.115 0.9,-29.845
3D body: height 10, standoff -3, extent -0.2,-31.95 0.2,-31.55
3D body: height 2, standoff 0, extent -0.9,-32.385 0.9,-31.115
3D body: height 10, standoff -3, extent -0.2,-33.22 0.2,-32.82
3D body: height 2, standoff 0, extent -0.9,-33.655 0.9,-32.385
3D body: height 10, standoff -3, extent -0.2,-34.49 0.2,-34.09
3D body: height 2, standoff 0, extent -0.9,-34.925 0.9,-33.655
3D body: height 10, standoff -3, extent -0.2,-35.76 0.2,-35.36
3D body: height 2, standoff 0, extent -0.9,-36.195 0.9,-34.925
3D body: height 10, standoff -3, extent -0.2,-37.03 0.2,-36.63
3D body: height 2, standoff 0, extent -0.9,-37.465 0.9,-36.195
3D body: height 10, standoff -3, extent -0.2,-38.3 0.2,-37.9
3D body: height 2, standoff 0, extent -0.9,-38.735 0.9,-37.465
3D body: height 10, standoff -3, extent -0.2,-39.57 0.2,-39.17
3D body: height 2, standoff 0, extent -0.9,-40.005 0.9,-38.735
3D body: height 10, standoff -3, extent -0.2,-40.84 0.2,-40.44
3D body: height 2, standoff 0, extent -0.9,-41.275 0.9,-40.005
3D body: height 10, standoff -3, extent -0.2,-42.11 0.2,-41.71
3D body: height 2, standoff 0, extent -0.9,-42.545 0.9,-41.275
3D body: height 10, standoff -3, extent -0.2,-43.38 0.2,-42.98
3D body: height 2, standoff 0, extent -0.9,-43.815 0.9,-42.545
3D body: height 10, standoff -3, extent -0.2,-44.65 0.2,-44.25
3D body: height 2, standoff 0, extent -0.9,-45.085 0.9,-43.815
3D body: height 10, standoff -3, extent -0.2,-45.92 0.2,-45.52
3D body: height 2, standoff 0, extent -0.9,-46.355 0.9,-45.085
3D body: height 10, standoff -3, extent -0.2,-47.19 0.2,-46.79
3D body: height 2, standoff 0, extent -0.9,-47.625 0.9,-46.355
3D body: height 10, standoff -3, extent -0.2,-48.46 0.2,-48.06
3D body: height 2, standoff 0, extent -0.9,-48.895 0.9,-47.625
3D body: height 10, standoff -3, extent -0.2,-49.73 0.2,-49.33
3D body: height 2, standoff 0, extent -0.9,-50.165 0.9,-48.895
3D body: height 10, standoff -3, extent -0.2,-51 0.2,-50.6
3D body: height 2, standoff 0, extent -0.9,-51.435 0.9,-50.165
3D body: height 10, standoff -3, extent -0.2,-52.27 0.2,-51.87
3D body: height 2, standoff 0, extent -0.9,-52.705 0.9,-51.435
3D body: height 10, standoff -3, extent -0.2,-53.54 0.2,-53.14
3D body: height 2, standoff 0, extent -0.9,-53.975 0.9,-52.705
3D body: height 10, standoff -3, extent -0.2,-54.81 0.2,-54.41
3D body: height 2, standoff 0, extent -0.9,-55.245 0.9,-53.975
3D body: height 10, standoff -3, extent -0.2,-56.08 0.2,-55.68
3D body: height 2, standoff 0, extent -0.9,-56.515 0.9,-55.245
3D body: height 10, standoff -3, extent -0.2,-58.62 0.2,-58.22
3D body: height 2, standoff 0, extent -0.9,-59.055 0.9,-57.785

## HEAD_127_1X48 [mm] "Header 1.27mm 1x48"
pads (48):
  round 1.05 hole 0.65: 1(0,0) 2(0,-1.27) 3(0,-2.54) 4(0,-3.81) 5(0,-5.08) 6(0,-6.35) 7(0,-7.62) 8(0,-8.89) 9(0,-10.16) 10(0,-11.43) 11(0,-12.7) 12(0,-13.97) 13(0,-15.24) 14(0,-16.51) 15(0,-17.78) 16(0,-19.05) 17(0,-20.32) 18(0,-21.59) 19(0,-22.86) 20(0,-24.13) 21(0,-25.4) 22(0,-26.67) 23(0,-27.94) 24(0,-29.21) 25(0,-30.48) 26(0,-31.75) 27(0,-33.02) 28(0,-34.29) 29(0,-35.56) 30(0,-36.83) 31(0,-38.1) 32(0,-39.37) 33(0,-40.64) 34(0,-41.91) 35(0,-43.18) 36(0,-44.45) 37(0,-45.72) 38(0,-46.99) 39(0,-48.26) 40(0,-49.53) 41(0,-50.8) 42(0,-52.07) 43(0,-53.34) 44(0,-54.61) 45(0,-55.88) 46(0,-57.15) 47(0,-58.42) 48(0,-59.69)
Top Overlay:
  drawing of 288 lines, arcs and shapes, not listed
  text "1" at -0.642,1.636 h2
Bottom Overlay:
  text "1" at -0.642,0.864 h2
Top Assembly:
  drawing of 344 lines, arcs and shapes, not listed
3D body: height 10, standoff -3, extent -0.2,-57.35 0.2,-56.95
3D body: height 2, standoff 0, extent -0.9,-57.785 0.9,-56.515
3D body: height 10, standoff -3, extent -0.2,-17.98 0.2,-17.58
3D body: height 2, standoff 0, extent -0.9,-18.415 0.9,-17.145
3D body: height 10, standoff -3, extent -0.2,-16.71 0.2,-16.31
3D body: height 2, standoff 0, extent -0.9,-17.145 0.9,-15.875
3D body: height 10, standoff -3, extent -0.2,-15.44 0.2,-15.04
3D body: height 2, standoff 0, extent -0.9,-15.875 0.9,-14.605
3D body: height 10, standoff -3, extent -0.2,-14.17 0.2,-13.77
3D body: height 2, standoff 0, extent -0.9,-14.605 0.9,-13.335
3D body: height 10, standoff -3, extent -0.2,-12.9 0.2,-12.5
3D body: height 2, standoff 0, extent -0.9,-13.335 0.9,-12.065
3D body: height 10, standoff -3, extent -0.2,-11.63 0.2,-11.23
3D body: height 2, standoff 0, extent -0.9,-12.065 0.9,-10.795
3D body: height 10, standoff -3, extent -0.2,-10.36 0.2,-9.96
3D body: height 2, standoff 0, extent -0.9,-10.795 0.9,-9.525
3D body: height 10, standoff -3, extent -0.2,-9.09 0.2,-8.69
3D body: height 2, standoff 0, extent -0.9,-9.525 0.9,-8.255
3D body: height 2, standoff 0, extent -0.9,-8.255 0.9,-6.985
3D body: height 10, standoff -3, extent -0.2,-7.82 0.2,-7.42
3D body: height 2, standoff 0, extent -0.9,-6.985 0.9,-5.715
3D body: height 10, standoff -3, extent -0.2,-6.55 0.2,-6.15
3D body: height 2, standoff 0, extent -0.9,-5.715 0.9,-4.445
3D body: height 10, standoff -3, extent -0.2,-5.28 0.2,-4.88
3D body: height 2, standoff 0, extent -0.9,-4.445 0.9,-3.175
3D body: height 10, standoff -3, extent -0.2,-4.01 0.2,-3.61
3D body: height 2, standoff 0, extent -0.9,-3.175 0.9,-1.905
3D body: height 10, standoff -3, extent -0.2,-2.74 0.2,-2.34
3D body: height 2, standoff 0, extent -0.9,-1.905 0.9,-0.635
3D body: height 10, standoff -3, extent -0.2,-1.47 0.2,-1.07
3D body: height 2, standoff 0, extent -0.9,-0.635 0.9,0.635
3D body: height 10, standoff -3, extent -0.2,-0.2 0.2,0.2
3D body: height 10, standoff -3, extent -0.2,-19.25 0.2,-18.85
3D body: height 2, standoff 0, extent -0.9,-19.685 0.9,-18.415
3D body: height 10, standoff -3, extent -0.2,-20.52 0.2,-20.12
3D body: height 2, standoff 0, extent -0.9,-20.955 0.9,-19.685
3D body: height 10, standoff -3, extent -0.2,-21.79 0.2,-21.39
3D body: height 2, standoff 0, extent -0.9,-22.225 0.9,-20.955
3D body: height 10, standoff -3, extent -0.2,-23.06 0.2,-22.66
3D body: height 2, standoff 0, extent -0.9,-23.495 0.9,-22.225
3D body: height 10, standoff -3, extent -0.2,-24.33 0.2,-23.93
3D body: height 2, standoff 0, extent -0.9,-24.765 0.9,-23.495
3D body: height 10, standoff -3, extent -0.2,-25.6 0.2,-25.2
3D body: height 2, standoff 0, extent -0.9,-26.035 0.9,-24.765
3D body: height 10, standoff -3, extent -0.2,-26.87 0.2,-26.47
3D body: height 2, standoff 0, extent -0.9,-27.305 0.9,-26.035
3D body: height 10, standoff -3, extent -0.2,-28.14 0.2,-27.74
3D body: height 2, standoff 0, extent -0.9,-28.575 0.9,-27.305
3D body: height 10, standoff -3, extent -0.2,-29.41 0.2,-29.01
3D body: height 2, standoff 0, extent -0.9,-29.845 0.9,-28.575
3D body: height 10, standoff -3, extent -0.2,-30.68 0.2,-30.28
3D body: height 2, standoff 0, extent -0.9,-31.115 0.9,-29.845
3D body: height 10, standoff -3, extent -0.2,-31.95 0.2,-31.55
3D body: height 2, standoff 0, extent -0.9,-32.385 0.9,-31.115
3D body: height 10, standoff -3, extent -0.2,-33.22 0.2,-32.82
3D body: height 2, standoff 0, extent -0.9,-33.655 0.9,-32.385
3D body: height 10, standoff -3, extent -0.2,-34.49 0.2,-34.09
3D body: height 2, standoff 0, extent -0.9,-34.925 0.9,-33.655
3D body: height 10, standoff -3, extent -0.2,-35.76 0.2,-35.36
3D body: height 2, standoff 0, extent -0.9,-36.195 0.9,-34.925
3D body: height 10, standoff -3, extent -0.2,-37.03 0.2,-36.63
3D body: height 2, standoff 0, extent -0.9,-37.465 0.9,-36.195
3D body: height 10, standoff -3, extent -0.2,-38.3 0.2,-37.9
3D body: height 2, standoff 0, extent -0.9,-38.735 0.9,-37.465
3D body: height 10, standoff -3, extent -0.2,-39.57 0.2,-39.17
3D body: height 2, standoff 0, extent -0.9,-40.005 0.9,-38.735
3D body: height 10, standoff -3, extent -0.2,-40.84 0.2,-40.44
3D body: height 2, standoff 0, extent -0.9,-41.275 0.9,-40.005
3D body: height 10, standoff -3, extent -0.2,-42.11 0.2,-41.71
3D body: height 2, standoff 0, extent -0.9,-42.545 0.9,-41.275
3D body: height 10, standoff -3, extent -0.2,-43.38 0.2,-42.98
3D body: height 2, standoff 0, extent -0.9,-43.815 0.9,-42.545
3D body: height 10, standoff -3, extent -0.2,-44.65 0.2,-44.25
3D body: height 2, standoff 0, extent -0.9,-45.085 0.9,-43.815
3D body: height 10, standoff -3, extent -0.2,-45.92 0.2,-45.52
3D body: height 2, standoff 0, extent -0.9,-46.355 0.9,-45.085
3D body: height 10, standoff -3, extent -0.2,-47.19 0.2,-46.79
3D body: height 2, standoff 0, extent -0.9,-47.625 0.9,-46.355
3D body: height 10, standoff -3, extent -0.2,-48.46 0.2,-48.06
3D body: height 2, standoff 0, extent -0.9,-48.895 0.9,-47.625
3D body: height 10, standoff -3, extent -0.2,-49.73 0.2,-49.33
3D body: height 2, standoff 0, extent -0.9,-50.165 0.9,-48.895
3D body: height 10, standoff -3, extent -0.2,-51 0.2,-50.6
3D body: height 2, standoff 0, extent -0.9,-51.435 0.9,-50.165
3D body: height 10, standoff -3, extent -0.2,-52.27 0.2,-51.87
3D body: height 2, standoff 0, extent -0.9,-52.705 0.9,-51.435
3D body: height 10, standoff -3, extent -0.2,-53.54 0.2,-53.14
3D body: height 2, standoff 0, extent -0.9,-53.975 0.9,-52.705
3D body: height 10, standoff -3, extent -0.2,-54.81 0.2,-54.41
3D body: height 2, standoff 0, extent -0.9,-55.245 0.9,-53.975
3D body: height 10, standoff -3, extent -0.2,-56.08 0.2,-55.68
3D body: height 2, standoff 0, extent -0.9,-56.515 0.9,-55.245
3D body: height 10, standoff -3, extent -0.2,-58.62 0.2,-58.22
3D body: height 2, standoff 0, extent -0.9,-59.055 0.9,-57.785
3D body: height 10, standoff -3, extent -0.2,-59.89 0.2,-59.49
3D body: height 2, standoff 0, extent -0.9,-60.325 0.9,-59.055